# Altium footprint library PCBLed2k1_x2.PcbLib: 14 footprints
Each footprint in its own frame and in the unit in brackets; x right, y up, seen from the top. Pads: shape width x height; smd on the part's side, far side on the other; paste and mask are expansions set on the pad; w line width, h text height; cw(c..) or ccw(c..) is an arc to the next point about the centre after c.
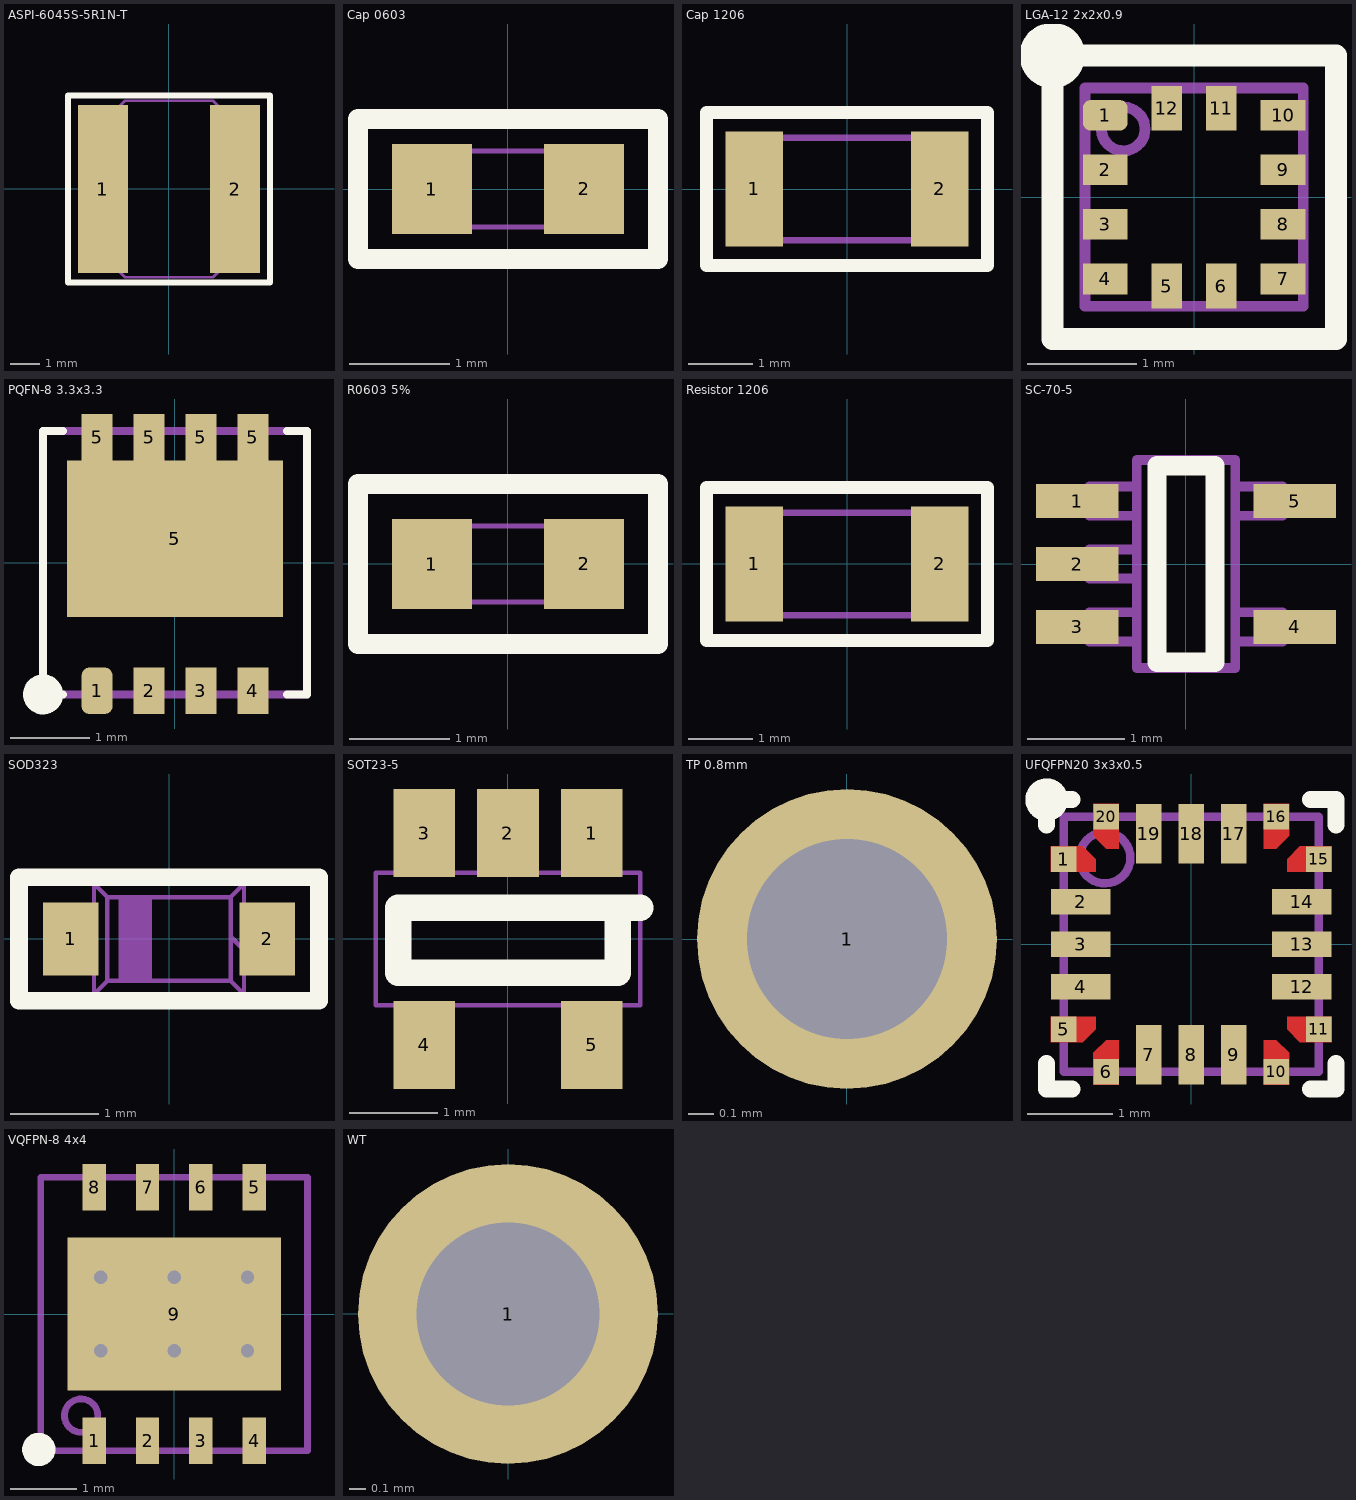
[diagram p0: the footprints below, top view; thin cyan lines are the x and y axes]

## ASPI-6045S-5R1N-T [mm]
pads (2):
  rect 1.7x5.7 smd: 1(-2.25,0) 2(2.25,0)
Top Overlay:
  lines w0.2: -3.429,-3.175 3.429,-3.175 3.429,3.175 -3.429,3.175 -3.429,-3.175
Mechanical 1:
  lines w0.1: -3,-2.4 -3,2.4 ; -3,-2.4 -2.1,-2.4 ; -3,-2.4 -2.1,-2.4 ; -3,2.4 -2.1,2.4 ; -3,2.4 -2.1,2.4 ; -2.1,-2.4 -1.875,-2.625 ; -2.1,-2.4 -1.875,-2.625 ; -2.1,2.4 -1.875,2.625 ; -2.1,2.4 -1.875,2.625 ; -1.875,-2.625 -1.5,-3 ; -1.875,-2.625 -1.5,-3 ; -1.875,2.625 -1.5,3 ; -1.875,2.625 -1.5,3 ; -1.5,-3 1.5,-3 ; -1.5,-3 1.5,-3 ; -1.5,3 1.5,3 ; -1.5,3 1.5,3 ; 1.5,-3 1.875,-2.625 ; 1.5,-3 1.875,-2.625 ; 1.5,3 1.875,2.625 ; 1.5,3 1.875,2.625 ; 1.875,-2.625 2.1,-2.4 ; 1.875,-2.625 2.1,-2.4 ; 1.875,2.625 2.1,2.4 ; 1.875,2.625 2.1,2.4 ; 2.1,-2.4 3,-2.4 ; 2.1,-2.4 3,-2.4 ; 2.1,2.4 3,2.4 ; 2.1,2.4 3,2.4 ; 3,-2.4 3,2.4
  text "'.Comment'" at -2.375,0.525 h1
  text "'.Designator'" at 1.4,0.525 h1
3D body "ASPI-6045S.STEP": height 4.5, standoff 0, extent -3,-3 3,3

## Cap 0603 [mm]
pads (2):
  rect 0.8x0.9 smd: 1(-0.762,0) 2(0.762,0)
Top Overlay:
  lines w0.2: -1.5,-0.7 1.5,-0.7 1.5,0.7 -1.5,0.7 -1.5,-0.7
Mechanical 1:
  lines w0.05: -0.508,-0.381 -0.508,0.381 ; 0.508,-0.381 0.508,0.381 ; -0.762,-0.381 -0.762,0.381 0.762,0.381 0.762,-0.381 -0.762,-0.381
  text ".Comment" at -0.381,-0.127 h0.51
  text ".Designator" at 1.175,0.425 h0.8
3D body "User Library-CapCeramic_Kemet_0603_1608.step": height 0.8, standoff 0, extent -0.8,-0.4 0.8,0.4

## Cap 1206 [mm]
pads (2):
  rect 0.9x1.8 smd: 1(-1.45,0) 2(1.45,0)
Top Overlay:
  lines w0.2: -2.2,-1.2 2.2,-1.2 2.2,1.2 -2.2,1.2 -2.2,-1.2
Mechanical 1:
  lines w0.1: -1.143,-0.8 -1.143,0.8 ; 1.143,-0.8 1.143,0.8 ; -1.6,-0.8 1.6,-0.8 1.6,0.8 -1.6,0.8 -1.6,-0.8
  text ".Comment" at 0.575,0.275 h0.8
  text ".Designator" at 2.025,0.45 h0.8
3D body "User Library-1206 SMD Capacitor.step": height 1, standoff 0, extent -1.6,-0.8 1.6,0.8

## LGA-12 2x2x0.9 [mm] "LGA-12 2x2x0.9"
height 1
pads (12):
  rrect50% 0.41x0.28 smd: 1(-0.815,0.75)
  rect 0.41x0.28 smd: 2(-0.815,0.25) 3(-0.815,-0.25) 4(-0.815,-0.75) 7(0.815,-0.75) 8(0.815,-0.25) 9(0.815,0.25) 10(0.815,0.75)
  rect 0.28x0.41 smd: 5(-0.25,-0.815) 6(0.25,-0.815) 11(0.25,0.815) 12(-0.25,0.815)
Top Overlay:
  circle w0.3: c-1.3,1.3 r0.15
  lines w0.2: -1.3,-1.3 1.3,-1.3 1.3,1.3 -1.3,1.3 -1.3,-1.3
Mechanical 1:
  circle w0.1: c-0.65,0.625 r0.2
  lines w0.1: -1,-1 1,-1 1,1 -1,1 -1,-1
  text "'.Designator'" at 0.25,-1.375 h0.5
  text "'.Comment'" at 0.775,-0.425 h0.5
3D body "LGA-12 2x2x0_9.step": height 0.95, standoff 0, extent -1,-1 1,1

## PQFN-8 3.3x3.3 [mm]
pads (9):
  rrect50% 0.39x0.58 smd: 1(-0.975,-1.605)
  rect 0.39x0.58 smd: 2(-0.325,-1.605) 3(0.325,-1.605) 4(0.975,-1.605) 5(-0.975,1.57) 5(-0.325,1.57) 5(0.325,1.57) 5(0.975,1.57)
  rect 2.7x1.96 smd paste-2: 5(0,0.3)
Top Overlay:
  circle w0.2: c-1.65,-1.65 r0.15
  lines w0.1: -1.4,-1.65 -1.65,-1.65 -1.65,1.65 -1.4,1.65 ; 1.4,-1.65 1.65,-1.65 1.65,1.65 1.4,1.65
Top Paste:
  rectangle: -1.32,0.8 -0.125,1.28
  rectangle: 0.125,0.8 1.32,1.28
  rectangle: -1.32,0.1 -0.125,0.58
  rectangle: 0.125,0.1 1.32,0.58
  rectangle: 0.125,-0.6 1.32,-0.12
  region: -0.12,-0.12 -1.315,-0.12 -1.315,-0.6 -0.12,-0.6
Mechanical 1:
  lines w0.1: -1.65,-1.65 1.65,-1.65 1.65,1.65 -1.65,1.65 -1.65,-1.65
  text "'.Comment'" at 1.55,-1.955 h0.8
  text "'.Designator'" at 0.25,0.37 h0.8
3D body "User Library-PQFN8.step": height 0.76, standoff -0.04, extent -1.65,-1.65 1.65,1.65

## R0603 5% [mm]
pads (2):
  rect 0.8x0.9 smd: 1(-0.762,0) 2(0.762,0)
Top Overlay:
  lines w0.2: -1.5,-0.8 -1.5,0.8 1.5,0.8 1.5,-0.8 -1.5,-0.8
Mechanical 1:
  lines w0.05: -0.725,-0.375 -0.725,0.375 ; -0.7,-0.375 -0.7,0.375 ; -0.65,-0.381 -0.65,0.381 ; -0.6,-0.381 -0.6,0.381 ; -0.55,-0.381 -0.55,0.375 ; -0.508,-0.381 -0.508,0.381 ; 0.508,-0.381 0.508,0.381 ; 0.55,-0.381 0.55,0.375 ; 0.6,-0.381 0.6,0.381 ; 0.65,-0.381 0.65,0.381 ; 0.7,-0.375 0.7,0.375 ; 0.725,-0.375 0.725,0.375 ; -0.762,-0.381 -0.762,0.381 ; -0.762,-0.381 -0.762,0.381 ; -0.762,-0.381 0.762,-0.381 0.762,0.381 -0.762,0.381
  text ".Comment" at -0.457,-0.127 h0.51
  text ".Designator" at -1.248,-0.425 h0.7
3D body "User Library-SMD Resistors0603.STEP": height 0.43, standoff -0.03, extent -0.775,-0.43 0.775,0.43

## Resistor 1206 [mm]
pads (2):
  rect 0.9x1.8 smd: 1(-1.45,0) 2(1.45,0)
Top Overlay:
  lines w0.2: -2.2,-1.2 -2.2,1.2 2.2,1.2 2.2,-1.2 -2.2,-1.2
Mechanical 1:
  lines w0.05: -1.1,-0.8 -1.1,0.8 ; 1.1,-0.8 1.1,0.8
  lines w0.1: -1.5,-0.8 -1.5,0.8 ; -1.425,-0.8 -1.425,0.8 ; -1.35,-0.8 -1.35,0.8 ; -1.275,-0.8 -1.275,0.8 ; -1.2,-0.8 -1.2,0.775 ; -1.125,-0.775 -1.125,0.8 ; 1.125,-0.775 1.125,0.8 ; 1.2,-0.8 1.2,0.775 ; 1.275,-0.8 1.275,0.8 ; 1.35,-0.8 1.35,0.8 ; 1.425,-0.8 1.425,0.8 ; 1.5,-0.8 1.5,0.8 ; 1.6,-0.8 -1.6,-0.8 -1.6,0.8 1.6,0.8 ; 1.6,-0.8 1.6,0.8 ; 1.6,-0.8 1.6,0.8
  text ".Comment" at -0.775,-0.3 h0.8
  text ".Designator" at -0.4,1.975 h0.8
3D body "Res 1206.step": height 0.55, standoff 0, extent -1.6,-0.8 1.6,0.8

## SC-70-5 [mm]
height 5.6
pads (5):
  rect 0.85x0.35 smd: 1(-1.125,0.65) 2(-1.125,0) 3(-1.125,-0.65) 4(1.125,-0.65) 5(1.125,0.65)
Top Overlay:
  lines w0.2: -0.3,-1.016 0.3,-1.016 0.3,1.016 -0.3,1.016 -0.3,-1.016
Mechanical 1:
  lines w0.1: -0.508,-0.8 -1,-0.8 -1,-0.5 -0.508,-0.5 ; -0.508,-0.15 -1,-0.15 -1,0.15 -0.508,0.15 ; -0.508,0.5 -1,0.5 -1,0.8 -0.508,0.8 ; 0.508,-0.8 1,-0.8 1,-0.5 0.508,-0.5 ; 0.508,0.5 1,0.5 1,0.8 0.508,0.8 ; -0.508,-1.075 -0.508,1.075 0.508,1.075 0.508,-1.075 -0.508,-1.075
  text "'.Designator'" at 1.475,2 h1
  text "'.Comment'" at -0.2,0.975 h0.7
3D body "User Library-SC70-5-1.step": height 0.95, standoff 0, extent -1.05,-1 1.05,1

## SOD323 [mm]
pads (2):
  rect 0.63x0.83 smd: 1(-1.115,0) 2(1.115,0)
Top Overlay:
  lines w0.2: -1.7,-0.7 -1.7,0.7 1.7,0.7 1.7,-0.7 -1.7,-0.7
Mechanical 1:
  region: -0.192,0.475 -0.573,0.475 -0.573,-0.475 -0.192,-0.475
  lines w0.05: -1.05,-0.1 -1.05,0.1 ; -0.85,-0.15 -1.25,-0.15 -1.25,0.15 -0.85,0.15 ; 0.7,0.025 0.875,-0.15 1.275,-0.15 1.275,0.15 0.875,0.15 ; 1.075,-0.1 1.075,0.1 ; -0.85,-0.625 -0.7,-0.475 ; -0.85,-0.625 -0.85,0.625 ; -0.85,-0.625 0.85,-0.625 ; -0.85,0.625 -0.7,0.475 ; -0.85,0.625 -0.85,0.625 ; -0.85,0.625 0.85,0.625 ; -0.7,-0.475 0.7,-0.475 ; -0.7,-0.475 -0.7,0.475 ; -0.7,0.475 0.7,0.475 ; 0.7,-0.475 0.7,0.475 ; 0.7,-0.475 0.85,-0.625 ; 0.7,0.475 0.85,0.625 ; 0.85,-0.625 0.85,0.625
  text ".Comment" at -0.2,-0.1 h0.4
  text ".Designator" at -0.875,0.917 h0.8
3D body "SOD-323-2.step": height 1.1, standoff 0, extent -1.35,-0.625 1.35,0.625

## SOT23-5 [mm]
pads (5):
  rect 0.7x1 smd: 1(0.95,1.2) 2(0,1.2) 3(-0.95,1.2) 4(-0.95,-1.2) 5(0.95,-1.2)
Top Overlay:
  lines w0.3: 1.499,0.356 1.245,0.356 ; 1.245,0.356 1.245,-0.381 -1.245,-0.381 -1.245,0.356 1.245,0.356
Mechanical 1:
  lines w0.05: -1.15,-0.775 -1.15,-1.4 -0.75,-1.4 -0.75,-0.775 ; -1.15,0.75 -1.15,1.375 -0.75,1.375 -0.75,0.75 ; -1.1,-1 -0.8,-1 ; -1.1,1 -0.8,1 ; -0.2,0.75 -0.2,1.375 0.2,1.375 0.2,0.75 ; -0.15,1 0.15,1 ; 0.75,-0.75 0.75,-1.375 1.15,-1.375 1.15,-0.75 ; 0.75,0.75 0.75,1.375 1.15,1.375 1.15,0.75 ; 0.8,-1 1.1,-1 ; 0.8,1 1.1,1 ; -1.5,-0.75 1.5,-0.75 1.5,0.75 -1.5,0.75 -1.5,-0.75
  text ".Designator" at -1.85,-0.425 h0.8
  text ".Comment" at 2.5,-1.25 h0.8
3D body "SOT-23-5.step": height 1.45, standoff 0, extent -1.45,-1.4 1.45,1.4

## TP 0.8mm [mm]
pads (1):
  round 1.2 hole 0.8: 1(0,0)
Mechanical 3:
  text ".Designator" at 0.95,0.4 h0.8

## UFQFPN20 3x3x0.5 [mm]
pads (20):
  rect 0.3x0.3 smd paste-0.3 mask-0.3: 1(-1.5,1) 5(-1.5,-1) 6(-1,-1.5) 10(1,-1.5) 11(1.5,-1) 15(1.5,1) 16(1,1.5) 20(-1,1.5)
  rect 0.7x0.3 smd: 2(-1.3,0.5) 3(-1.3,0) 4(-1.3,-0.5) 12(1.3,-0.5) 13(1.3,0) 14(1.3,0.5)
  rect 0.3x0.7 smd: 7(-0.5,-1.3) 8(0,-1.3) 9(0.5,-1.3) 17(0.5,1.3) 18(0,1.3) 19(-0.5,1.3)
Top Layer:
  region: 1.65,1.15 1.65,0.85 1.125,0.85 1.125,1 1.275,1.15
  region: 1.15,1.65 0.85,1.65 0.85,1.125 1,1.125 1.15,1.275
  region: 1.15,-1.65 0.85,-1.65 0.85,-1.125 1,-1.125 1.15,-1.275
  region: 1.65,-1.15 1.65,-0.85 1.125,-0.85 1.125,-1 1.275,-1.15
  region: -1.65,-1.15 -1.65,-0.85 -1.125,-0.85 -1.125,-1 -1.275,-1.15
  region: -1.15,-1.65 -0.85,-1.65 -0.85,-1.125 -1,-1.125 -1.15,-1.275
  region: -1.65,1.15 -1.65,0.85 -1.125,0.85 -1.125,1 -1.275,1.15
  region: -1.15,1.65 -0.85,1.65 -0.85,1.125 -1,1.125 -1.15,1.275
Top Overlay:
  circle w0.25: c-1.7,1.7 r0.125
  lines w0.2: -1.7,-1.4 -1.7,-1.7 -1.4,-1.7 ; -1.7,1.4 -1.7,1.7 -1.4,1.7 ; 1.4,-1.7 1.7,-1.7 1.7,-1.4 ; 1.4,1.7 1.7,1.7 1.7,1.4
Top Paste:
  region: 1.1,1.6 0.9,1.6 0.9,1.175 0.95,1.175 1.1,1.325
  region: 1.6,1.1 1.6,0.9 1.175,0.9 1.175,0.95 1.325,1.1
  region: 1.6,-1.1 1.6,-0.9 1.175,-0.9 1.175,-0.95 1.325,-1.1
  region: 1.1,-1.6 0.9,-1.6 0.9,-1.175 0.95,-1.175 1.1,-1.325
  region: -1.1,-1.6 -0.9,-1.6 -0.9,-1.175 -0.95,-1.175 -1.1,-1.325
  region: -1.6,-1.1 -1.6,-0.9 -1.175,-0.9 -1.175,-0.95 -1.325,-1.1
  region: -1.1,1.6 -0.9,1.6 -0.9,1.175 -0.95,1.175 -1.1,1.325
  region: -1.6,1.1 -1.6,0.9 -1.175,0.9 -1.175,0.95 -1.325,1.1
Top Solder:
  region: 0.8,1.7 0.8,1.075 1.025,1.075 1.2,1.25 1.2,1.7
  region: 1.7,0.8 1.075,0.8 1.075,1.025 1.25,1.2 1.7,1.2
  region: 1.7,-0.8 1.075,-0.8 1.075,-1.025 1.25,-1.2 1.7,-1.2
  region: 0.8,-1.7 0.8,-1.075 1.025,-1.075 1.2,-1.25 1.2,-1.7
  region: -0.8,-1.7 -0.8,-1.075 -1.025,-1.075 -1.2,-1.25 -1.2,-1.7
  region: -1.7,-0.8 -1.075,-0.8 -1.075,-1.025 -1.25,-1.2 -1.7,-1.2
  region: -0.8,1.7 -0.8,1.075 -1.025,1.075 -1.2,1.25 -1.2,1.7
  region: -1.7,0.8 -1.075,0.8 -1.075,1.025 -1.25,1.2 -1.7,1.2
Mechanical 1:
  circle w0.1: c-1.016,1.016 r0.3
  lines w0.1: -1.5,-1.5 -1.5,1.5 1.5,1.5 1.5,-1.5 -1.5,-1.5
  text "'.Comment'" at 1.775,1.35 h0.7
  text "'.Designator'" at 0.9,-0.75 h0.7
3D body "User Library-UFQFPN20-1.step": height 0.55, standoff 0, extent -1.5,-1.5 1.5,1.5

## VQFPN-8 4x4 [mm]
height 1.8
pads (9):
  rect 0.35x0.7 smd: 1(-1.2,-1.9) 2(-0.4,-1.9) 3(0.4,-1.9) 4(1.2,-1.9) 5(1.2,1.9) 6(0.4,1.9) 7(-0.4,1.9) 8(-1.2,1.9)
  rect 3.2x2.3 smd: 9(0,0)
via 1.1,-0.55 diameter 0.5 hole 0.2
via 0,-0.55 diameter 0.5 hole 0.2
via -1.1,-0.55 diameter 0.5 hole 0.2
via 1.1,0.55 diameter 0.5 hole 0.2
via 0,0.55 diameter 0.5 hole 0.2
via -1.1,0.55 diameter 0.5 hole 0.2
Top Overlay:
  circle w0.25: c-2.032,-2.032 r0.125
Mechanical 1:
  circle w0.1: c-1.397,-1.524 r0.25
  lines w0.1: -2,-2.05 2,-2.05 2,2.05 -2,2.05 -2,-2.05
  text "'.Comment'" at -0.328,-1.425 h0.8
  text "'.Designator'" at 0.897,-0.475 h0.8
3D body "QFN0P400X400X90_HS-9N.step": height 0.9, standoff 0, extent -2,-2.02 2,2.02

## WT [mm]
pads (1):
  round 1.8 hole 1.1: 1(0,0)
Mechanical 3:
  text ".Designator" at 1.4,0.025 h0.8